# Altium footprint library PH2.0.PcbLib: 65 footprints (part 1 of 5)
Each footprint in its own frame and in the unit in brackets; x right, y up, seen from the top. Pads: shape width x height; smd on the part's side, far side on the other; paste and mask are expansions set on the pad; w line width, h text height; cw(c..) or ccw(c..) is an arc to the next point about the centre after c.
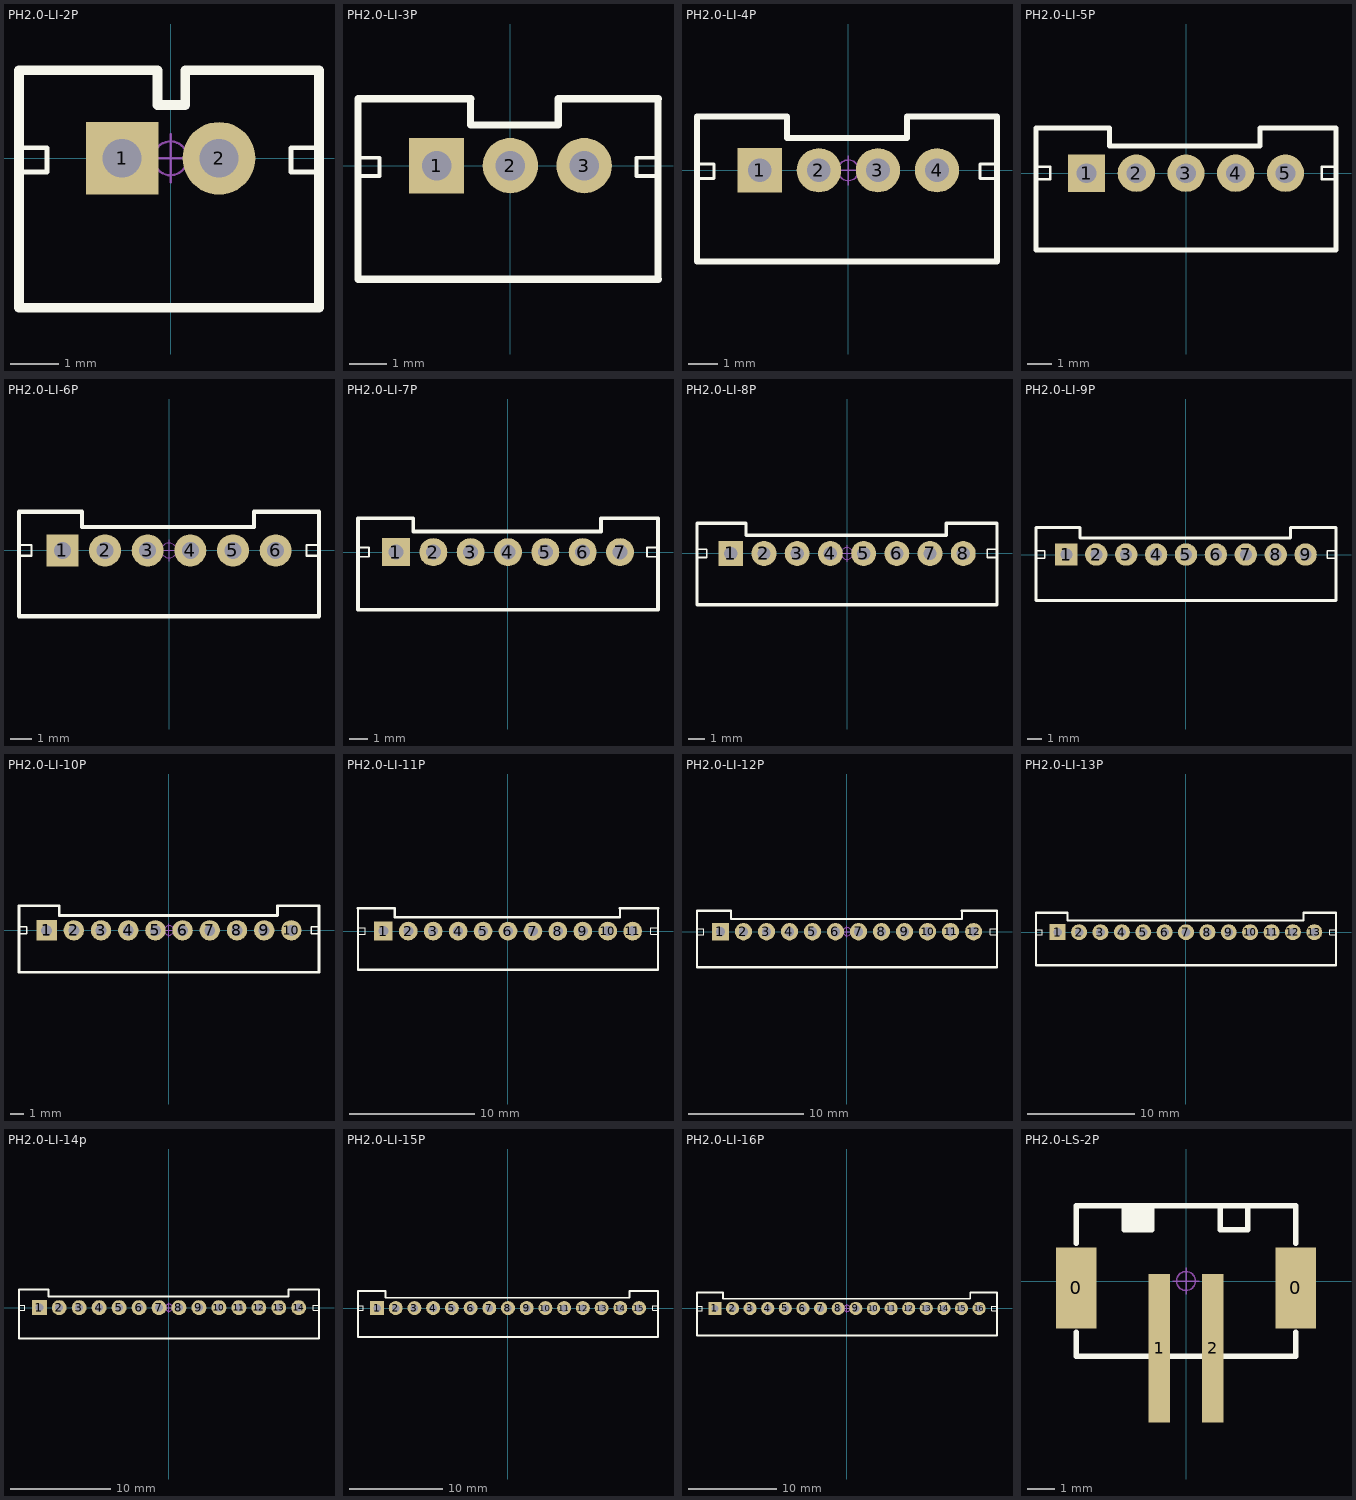
[diagram p0: the footprints below, top view; thin cyan lines are the x and y axes]

## PH2.0-LI-2P [mm] "长：5.9mm，宽：4.7mm，高：6mm"
height 10
pads (2):
  rect 1.5x1.5 hole 0.8: 1(-1,0)
  round 1.5 hole 0.8: 2(1,0)
Top Overlay:
  lines w0.1: -3.128,-0.284 -2.548,-0.284 -2.548,0.216 -3.128,0.216 ; 3.064,-0.284 2.484,-0.284 2.484,0.216 3.064,0.216
  lines w0.2: -3.128,-3.084 -3.128,1.816 ; -0.27,1.816 -0.27,1.1 0.302,1.1 0.302,1.816 ; 3.064,-3.084 3.064,1.816
  lines w0.203: -3.128,-3.084 3,-3.084 ; -3.128,1.816 -0.27,1.816 ; 0.302,1.816 3,1.816
Mechanical 15:
  circle w0.05: c0,0 r0.35
  lines w0.05: -0.5,0 0.5,0 ; 0,-0.5 0,0.5
3D body "PH2.0-LI-2P.STEP": height 6.01, standoff -2.99, extent -2.95,-3 2.95,1.7

## PH2.0-LI-3P [mm] "长：7.9mm，宽：4.7mm，高：6mm"
height 10
pads (3):
  rect 1.5x1.5 hole 0.8: 1(-2,0)
  round 1.5 hole 0.8: 2(0,0) 3(2,0)
Top Overlay:
  lines w0.1: -4.128,-0.284 -3.548,-0.284 -3.548,0.216 -4.128,0.216 ; 4,-0.284 3.42,-0.284 3.42,0.216 4,0.216
  lines w0.2: -4.128,-3.084 -4.128,1.816 ; -1.08,1.816 -1.08,1.1 1.302,1.1 1.302,1.816 ; 4,-3.084 4,1.816
  lines w0.203: -4.128,-3.084 4,-3.084 ; -4.128,1.816 -1.08,1.816 ; 1.302,1.816 4,1.816
Mechanical 15:
  circle w0.05: c0,0 r0.35
  lines w0.05: -0.5,0 0.5,0 ; 0,-0.5 0,0.5
3D body "PH2.0-LI-3P.STEP": height 6.01, standoff -2.99, extent -3.95,-3 3.95,1.7

## PH2.0-LI-4P [mm] "长：9.9mm，宽：4.7mm，高：6mm"
height 10
pads (4):
  rect 1.5x1.5 hole 0.8: 1(-3,0)
  round 1.5 hole 0.8: 2(-1,0) 3(1,0) 4(3,0)
Top Overlay:
  lines w0.1: -5.128,-0.284 -4.548,-0.284 -4.548,0.216 -5.128,0.216 ; 5.032,-0.284 4.452,-0.284 4.452,0.216 5.032,0.216
  lines w0.2: -5.128,1.816 -5.128,-3.084 5.032,-3.084 5.032,1.816 ; -2.08,1.816 -2.08,1.1 1.984,1.1 1.984,1.816
  lines w0.203: -5.128,1.816 -2.08,1.816 ; 1.984,1.816 5.032,1.816
Mechanical 15:
  circle w0.05: c0,0 r0.35
  lines w0.05: -0.5,0 0.5,0 ; 0,-0.5 0,0.5
3D body "PH2.0-LI-4P.STEP": height 6.01, standoff -2.99, extent -4.95,-3 4.95,1.7

## PH2.0-LI-5P [mm] "长：11.9mm，宽：4.7mm，高：6mm"
height 10
pads (5):
  rect 1.5x1.5 hole 0.8: 1(-4,0)
  round 1.5 hole 0.8: 2(-2,0) 3(0,0) 4(2,0) 5(4,0)
Top Overlay:
  lines w0.1: -6.032,-0.246 -5.452,-0.246 -5.452,0.254 -6.032,0.254 ; 6.032,-0.246 5.452,-0.246 5.452,0.254 6.032,0.254
  lines w0.2: -6.032,1.816 -6.032,-3.084 6.032,-3.084 6.032,1.816 ; -3.08,1.816 -3.08,1.1 2.984,1.1 2.984,1.816
  lines w0.203: -6.032,1.816 -3.08,1.816 ; 2.984,1.816 6.032,1.816
Mechanical 15:
  circle w0.05: c0,0 r0.35
  lines w0.05: -0.5,0 0.5,0 ; 0,-0.5 0,0.5
3D body "PH2.0-LI-5P.STEP": height 6.01, standoff -2.99, extent -5.95,-3 5.95,1.7

## PH2.0-LI-6P [mm] "长：13.9mm，宽：4.7mm，高：6mm"
height 10
pads (6):
  rect 1.5x1.5 hole 0.8: 1(-5,0)
  round 1.5 hole 0.8: 2(-3,0) 3(-1,0) 4(1,0) 5(3,0) 6(5,0)
Top Overlay:
  lines w0.1: -7.032,-0.246 -6.452,-0.246 -6.452,0.254 -7.032,0.254 ; 7.032,-0.246 6.452,-0.246 6.452,0.254 7.032,0.254
  lines w0.2: -7.032,1.816 -7.032,-3.084 7.032,-3.084 7.032,1.816 ; -4.08,1.816 -4.08,1.1 3.984,1.1 3.984,1.816
  lines w0.203: -7.032,1.816 -4.08,1.816 ; 3.984,1.816 7.032,1.816
Mechanical 15:
  circle w0.05: c0,0 r0.35
  lines w0.05: -0.5,0 0.5,0 ; 0,-0.5 0,0.5
3D body "PH2.0-LI-6P.STEP": height 6.01, standoff -2.99, extent -6.95,-3 6.95,1.7

## PH2.0-LI-7P [mm] "长：15.9mm，宽：4.7mm，高：6mm"
height 10
pads (7):
  rect 1.5x1.5 hole 0.8: 1(-6,0)
  round 1.5 hole 0.8: 2(-4,0) 3(-2,0) 4(0,0) 5(2,0) 6(4,0) 7(6,0)
Top Overlay:
  lines w0.1: -8.032,-0.246 -7.452,-0.246 -7.452,0.254 -8.032,0.254 ; 8.032,-0.246 7.452,-0.246 7.452,0.254 8.032,0.254
  lines w0.2: -8.032,1.816 -8.032,-3.084 8.032,-3.084 8.032,1.816 ; -5.08,1.816 -5.08,1.1 4.984,1.1 4.984,1.816
  lines w0.203: -8.032,1.816 -5.08,1.816 ; 4.984,1.816 8.032,1.816
Mechanical 15:
  circle w0.05: c0,0 r0.35
  lines w0.05: -0.5,0 0.5,0 ; 0,-0.5 0,0.5
3D body "PH2.0-LI-7P.STEP": height 6.01, standoff -2.99, extent -7.95,-3 7.95,1.7

## PH2.0-LI-8P [mm] "长：17.9mm，宽：4.7mm，高：6mm"
height 10
pads (8):
  rect 1.5x1.5 hole 0.8: 1(-7,0)
  round 1.5 hole 0.8: 2(-5,0) 3(-3,0) 4(-1,0) 5(1,0) 6(3,0) 7(5,0) 8(7,0)
Top Overlay:
  lines w0.1: -9.032,-0.246 -8.452,-0.246 -8.452,0.254 -9.032,0.254 ; 9.032,-0.246 8.452,-0.246 8.452,0.254 9.032,0.254
  lines w0.2: -9.032,1.816 -9.032,-3.084 9.032,-3.084 9.032,1.816 ; -6.08,1.816 -6.08,1.1 5.984,1.1 5.984,1.816
  lines w0.203: -9.032,1.816 -6.08,1.816 ; 5.984,1.816 9.032,1.816
Mechanical 15:
  circle w0.05: c0,0 r0.35
  lines w0.05: -0.5,0 0.5,0 ; 0,-0.5 0,0.5
3D body "PH2.0-LI-8P.STEP": height 6.01, standoff -2.99, extent -8.95,-3 8.95,1.7

## PH2.0-LI-9P [mm] "长：19.9mm，宽：4.7mm，高：6mm"
height 10
pads (9):
  rect 1.5x1.5 hole 0.8: 1(-8,0)
  round 1.5 hole 0.8: 2(-6,0) 3(-4,0) 4(-2,0) 5(0,0) 6(2,0) 7(4,0) 8(6,0) 9(8,0)
Top Overlay:
  lines w0.1: -10.032,-0.246 -9.452,-0.246 -9.452,0.254 -10.032,0.254 ; 10.032,-0.246 9.452,-0.246 9.452,0.254 10.032,0.254
  lines w0.2: -10.032,1.816 -10.032,-3.084 10.032,-3.084 10.032,1.816 ; -7.08,1.816 -7.08,1.1 6.984,1.1 6.984,1.816
  lines w0.203: -10.032,1.816 -7.08,1.816 ; 6.984,1.816 10.032,1.816
Mechanical 15:
  circle w0.05: c0,0 r0.35
  lines w0.05: -0.5,0 0.5,0 ; 0,-0.5 0,0.5
3D body "PH2.0-LI-9P.STEP": height 6.01, standoff -2.99, extent -9.95,-3 9.95,1.7

## PH2.0-LI-10P [mm] "长：21.9mm，宽：4.7mm，高：6mm"
height 10
pads (10):
  rect 1.5x1.5 hole 0.8: 1(-9,0)
  round 1.5 hole 0.8: 2(-7,0) 3(-5,0) 4(-3,0) 5(-1,0) 6(1,0) 7(3,0) 8(5,0) 9(7,0) 10(9,0)
Top Overlay:
  lines w0.1: -11.032,-0.246 -10.452,-0.246 -10.452,0.254 -11.032,0.254 ; 11.032,-0.246 10.452,-0.246 10.452,0.254 11.032,0.254
  lines w0.2: -11.032,1.816 -11.032,-3.084 11.032,-3.084 11.032,1.816 ; -8.08,1.816 -8.08,1.1 7.984,1.1 7.984,1.816
  lines w0.203: -11.032,1.816 -8.08,1.816 ; 7.984,1.816 11.032,1.816
Mechanical 15:
  circle w0.05: c0,0 r0.35
  lines w0.05: -0.5,0 0.5,0 ; 0,-0.5 0,0.5
3D body "PH2.0-LI-10P.STEP": height 6.01, standoff -2.99, extent -10.95,-3 10.95,1.7

## PH2.0-LI-11P [mm] "接插件/1A"
height 10
pads (11):
  rect 1.5x1.5 hole 0.8: 1(-10,0)
  round 1.5 hole 0.8: 2(-8,0) 3(-6,0) 4(-4,0) 5(-2,0) 6(0,0) 7(2,0) 8(4,0) 9(6,0) 10(8,0) 11(10,0)
Top Overlay:
  lines w0.1: -12.032,-0.246 -11.452,-0.246 -11.452,0.254 -12.032,0.254 ; 12.032,-0.246 11.452,-0.246 11.452,0.254 12.032,0.254
  lines w0.2: -12.032,1.816 -12.032,-3.084 12.032,-3.084 12.032,1.816 ; -9.08,1.816 -9.08,1.1 8.984,1.1 8.984,1.816
  lines w0.203: -12.032,1.816 -9.08,1.816 ; 8.984,1.816 12.032,1.816
Mechanical 15:
  circle w0.05: c0,0 r0.35
  lines w0.05: -0.5,0 0.5,0 ; 0,-0.5 0,0.5
3D body "PH2.0-LI-11P.STEP": height 6.01, standoff -2.99, extent -11.95,-3 11.95,1.7

## PH2.0-LI-12P [mm] "长：23.9mm，宽：4.7mm，高：6mm"
height 10
pads (12):
  rect 1.5x1.5 hole 0.8: 1(-11,0)
  round 1.5 hole 0.8: 2(-9,0) 3(-7,0) 4(-5,0) 5(-3,0) 6(-1,0) 7(1,0) 8(3,0) 9(5,0) 10(7,0) 11(9,0) 12(11,0)
Top Overlay:
  lines w0.1: -13.032,-0.246 -12.452,-0.246 -12.452,0.254 -13.032,0.254 ; 13.032,-0.246 12.452,-0.246 12.452,0.254 13.032,0.254
  lines w0.2: -13.032,1.816 -13.032,-3.084 13.032,-3.084 13.032,1.816 ; -10.08,1.816 -10.08,1.1 9.984,1.1 9.984,1.816
  lines w0.203: -13.032,1.816 -10.08,1.816 ; 9.984,1.816 13.032,1.816
Mechanical 15:
  circle w0.05: c0,0 r0.35
  lines w0.05: -0.5,0 0.5,0 ; 0,-0.5 0,0.5
3D body "PH2.0-LI-12P.STEP": height 6.01, standoff -2.99, extent -12.95,-3 12.95,1.7

## PH2.0-LI-13P [mm] "长：25.9mm，宽：4.7mm，高：6mm"
height 10
pads (13):
  rect 1.5x1.5 hole 0.8: 1(-12,0)
  round 1.5 hole 0.8: 2(-10,0) 3(-8,0) 4(-6,0) 5(-4,0) 6(-2,0) 7(0,0) 8(2,0) 9(4,0) 10(6,0) 11(8,0) 12(10,0) 13(12,0)
Top Overlay:
  lines w0.1: -14.032,-0.246 -13.452,-0.246 -13.452,0.254 -14.032,0.254 ; 14.032,-0.246 13.452,-0.246 13.452,0.254 14.032,0.254
  lines w0.2: -14.032,1.816 -14.032,-3.084 14.032,-3.084 14.032,1.816 ; -11.08,1.816 -11.08,1.1 10.984,1.1 10.984,1.816
  lines w0.203: -14.032,1.816 -11.08,1.816 ; 10.984,1.816 14.032,1.816
Mechanical 15:
  circle w0.05: c0,0 r0.35
  lines w0.05: -0.5,0 0.5,0 ; 0,-0.5 0,0.5
3D body "PH2.0-LI-13P.STEP": height 6.01, standoff -2.99, extent -13.95,-3 13.95,1.7

## PH2.0-LI-14p [mm] "长：27.9mm，宽：4.7mm，高：6mm"
height 10
pads (14):
  rect 1.5x1.5 hole 0.8: 1(-13,0)
  round 1.5 hole 0.8: 2(-11,0) 3(-9,0) 4(-7,0) 5(-5,0) 6(-3,0) 7(-1,0) 8(1,0) 9(3,0) 10(5,0) 11(7,0) 12(9,0) 13(11,0) 14(13,0)
Top Overlay:
  lines w0.1: -15.032,-0.246 -14.452,-0.246 -14.452,0.254 -15.032,0.254 ; 15.032,-0.246 14.452,-0.246 14.452,0.254 15.032,0.254
  lines w0.2: -15.032,1.816 -15.032,-3.084 15.032,-3.084 15.032,1.816 ; -12.08,1.816 -12.08,1.1 11.984,1.1 11.984,1.816
  lines w0.203: -15.032,1.816 -12.08,1.816 ; 11.984,1.816 15.032,1.816
Mechanical 15:
  circle w0.05: c0,0 r0.35
  lines w0.05: -0.5,0 0.5,0 ; 0,-0.5 0,0.5
3D body "PH2.0-LI-14P.STEP": height 6.01, standoff -2.99, extent -14.95,-3 14.95,1.7

## PH2.0-LI-15P [mm] "长：27.9mm，宽：4.7mm，高：6mm"
height 10
pads (15):
  rect 1.5x1.5 hole 0.8: 1(-14,0)
  round 1.5 hole 0.8: 2(-12,0) 3(-10,0) 4(-8,0) 5(-6,0) 6(-4,0) 7(-2,0) 8(0,0) 9(2,0) 10(4,0) 11(6,0) 12(8,0) 13(10,0) 14(12,0) 15(14,0)
Top Overlay:
  lines w0.1: -16.032,-0.246 -15.452,-0.246 -15.452,0.254 -16.032,0.254 ; 16.032,-0.246 15.452,-0.246 15.452,0.254 16.032,0.254
  lines w0.2: -16.032,1.816 -16.032,-3.084 15.968,-3.084 ; -13.08,1.816 -13.08,1.1 12.984,1.1 12.984,1.816 ; 16.032,-3.084 16.032,1.816
  lines w0.203: -16.032,1.816 -13.08,1.816 ; 12.984,1.816 16.032,1.816
Mechanical 15:
  circle w0.05: c0,0 r0.35
  lines w0.05: -0.5,0 0.5,0 ; 0,-0.5 0,0.5
3D body "PH2.0-LI-15P.STEP": height 6.01, standoff -2.99, extent -15.95,-3 15.95,1.7

## PH2.0-LI-16P [mm] "长：29.9mm，宽：4.7mm，高：6mm"
height 10
pads (16):
  rect 1.5x1.5 hole 0.8: 1(-15,0)
  round 1.5 hole 0.8: 2(-13,0) 3(-11,0) 4(-9,0) 5(-7,0) 6(-5,0) 7(-3,0) 8(-1,0) 9(1,0) 10(3,0) 11(5,0) 12(7,0) 13(9,0) 14(11,0) 15(13,0) 16(15,0)
Top Overlay:
  lines w0.1: -17.032,-0.246 -16.452,-0.246 -16.452,0.254 -17.032,0.254 ; 17.032,-0.246 16.452,-0.246 16.452,0.254 17.032,0.254
  lines w0.2: -17.032,1.816 -17.032,-3.084 17.032,-3.084 17.032,1.816 ; -14.08,1.816 -14.08,1.1 13.984,1.1 13.984,1.816
  lines w0.203: -17.032,1.816 -14.08,1.816 ; 13.984,1.816 17.032,1.816
Mechanical 15:
  circle w0.05: c0,0 r0.35
  lines w0.05: -0.5,0 0.5,0 ; 0,-0.5 0,0.5
3D body "PH2.0-LI-16P.STEP": height 6.01, standoff -2.99, extent -16.95,-3 16.95,1.7

## PH2.0-LS-2P [mm] "长：8mm，宽：5.5mm，高：6.1mm"
pads (4):
  rect 1.5x3 smd: 0(-4.064,-0.254) 0(4.064,-0.254)
  rect 0.8x5.5 smd: 1(-1,-2.492) 2(1,-2.492)
Top Overlay:
  rectangle: -2.286,1.905 -1.27,2.794
  lines w0.2: -4.064,-1.905 -4.064,-2.794 4.064,-2.794 4.064,-1.905 ; -4.064,1.397 -4.064,2.794 4.064,2.794 4.064,1.397 ; -2.286,2.794 -2.286,1.905 -1.27,1.905 -1.27,2.794 ; 1.27,2.794 1.27,1.905 2.286,1.905 2.286,2.794
Mechanical 15:
  circle w0.05: c0,0 r0.35
  lines w0.05: -0.5,0 0.5,0 ; 0,-0.5 0,0.5
3D body "PH2.0-LS-2P.STEP": height 6.15, standoff 0, extent -4,-5.05 4,2.75